# EAGLE library part MAX14572 (library _MAX4230_MAX4231_MAX4232_MAX4234_MAX14572)
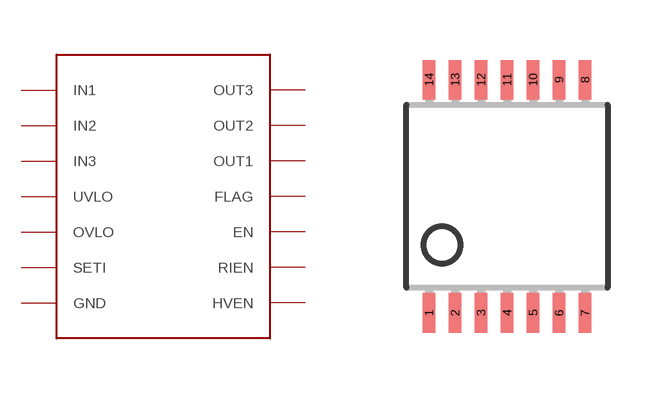
[diagram p3: symbol with the pads of TSSOP14; footprint TSSOP14]

Designator prefix -

## MAX14572  [TSSOP14]
1  IN1
2  IN2
3  IN3
4  UVLO
5  OVLO
6  SETI
7  GND
8  HVEN
9  RIEN
10  EN
11  FLAG
12  OUT1
13  OUT2
14  OUT3

## Footprint TSSOP14 (pad centres in mm)
TSSOP14 Thin Shrink Small Outline Plastic 14 source: MAX3223-MAX3243.pdf
smd 0.305 x 0.991: 1 -1.95,-2.918; 2 -1.3,-2.918; 3 -0.65,-2.918; 4 0,-2.918; 5 0.65,-2.918; 6 1.3,-2.918; 7 1.95,-2.918; 8 1.95,2.918; 9 1.3,2.918; 10 0.65,2.918; 11 0,2.918; 12 -0.65,2.918; 13 -1.3,2.918; 14 -1.95,2.918